# Altium footprint library LM2596_module.PcbLib: 1 footprints
Each footprint in its own frame and in the unit in brackets; x right, y up, seen from the top. Pads: shape width x height; smd on the part's side, far side on the other; paste and mask are expansions set on the pad; w line width, h text height; cw(c..) or ccw(c..) is an arc to the next point about the centre after c.
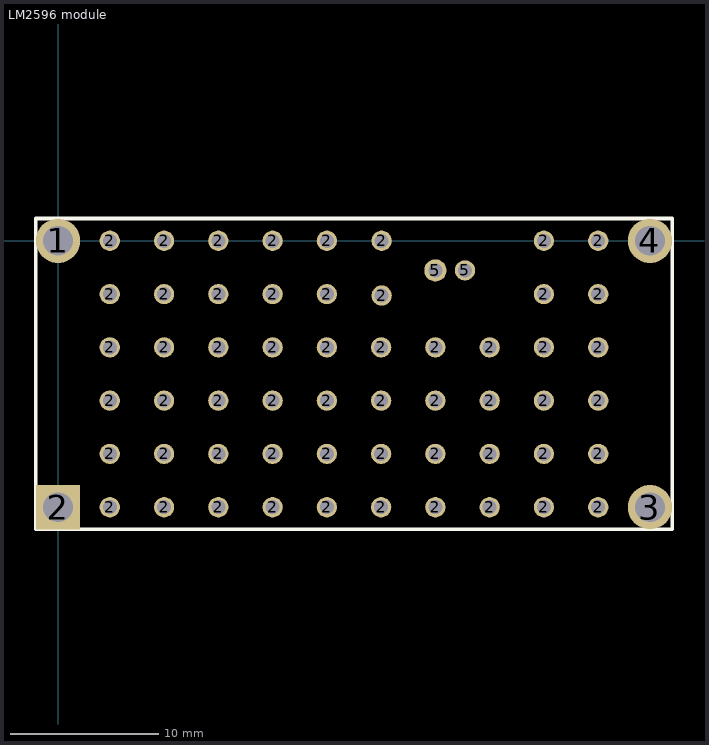
[diagram p0: the footprint, top view; thin cyan lines are the x and y axes]

## LM2596 module [mm]
pads (62):
  round 3 / inner round 1.524 / far side round 3 hole 2: 1(0,0) 3(40,-18) 4(40,0)
  rect 3x3 / inner rect 1.524x1.524 / far side rect 3x3 hole 2: 2(0,-18)
  round 1.372 hole 0.95: 2(3.5,-18) 2(3.5,-14.4) 2(3.5,-10.8) 2(3.5,-7.2) 2(3.5,-3.6) 2(3.5,0) 2(7.167,-18) 2(7.167,-14.4) 2(7.167,-10.8) 2(7.167,-7.2) 2(7.167,-3.6) 2(7.167,0) 2(10.833,-18) 2(10.833,-14.4) 2(10.833,-10.8) 2(10.833,-7.2) 2(10.833,-3.6) 2(10.833,0) 2(14.5,-18) 2(14.5,-14.4) 2(14.5,-10.8) 2(14.5,-7.2) 2(14.5,-3.6) 2(14.5,0) 2(18.167,-18) 2(18.167,-14.4) 2(18.167,-10.8) 2(18.167,-7.2) 2(18.167,-3.6) 2(18.167,0) 2(21.833,-18) 2(21.833,-14.4) 2(21.833,-10.8) 2(21.833,-7.2) 2(21.867,-3.7) 2(21.867,0) 2(25.5,-18) 2(25.5,-14.4) 2(25.5,-10.8) 2(25.5,-7.2) 2(29.167,-18) 2(29.167,-14.4) 2(29.167,-10.8) 2(29.167,-7.2) 2(32.833,-18) 2(32.833,-14.4) 2(32.833,-10.8) 2(32.833,-7.2) 2(32.833,-3.6) 2(32.833,0) 2(36.5,-18) 2(36.5,-14.4) 2(36.5,-10.8) 2(36.5,-7.2) 2(36.5,-3.6) 2(36.5,0)
  round 1.5 / inner round 1.524 / far side round 1.524 hole 0.95: 5(25.5,-2)
  round 1.372 / inner round 1.524 / far side round 1.524 hole 0.95: 5(27.5,-2)
Top Overlay:
  lines w0.25: -1.5,1.5 -1.5,-19.5 41.5,-19.5 41.5,1.5
  lines w0.254: -1.5,1.5 41.5,1.5
3D body "User Library-DC-DC MODULE LM2596s.STEP": height 13.21, standoff -0.6, extent -1.75,-19.6 41.75,1.4